# Altium footprint library SWITCHCRAFT_RASM722PTR13X.PcbLib: 1 footprints
Each footprint in its own frame and in the unit in brackets; x right, y up, seen from the top. Pads: shape width x height; smd on the part's side, far side on the other; paste and mask are expansions set on the pad; w line width, h text height; cw(c..) or ccw(c..) is an arc to the next point about the centre after c.
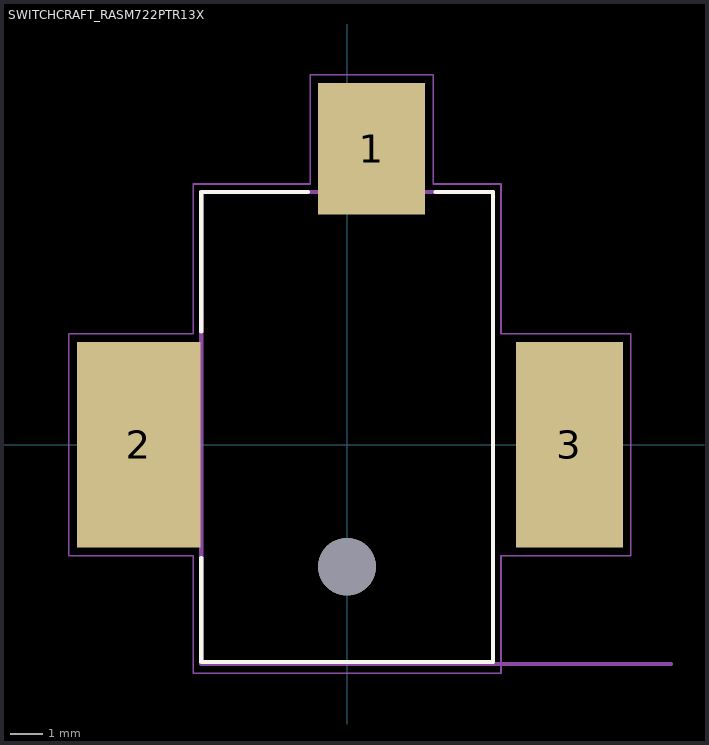
[diagram p0: the footprint, top view; thin cyan lines are the x and y axes]

## SWITCHCRAFT_RASM722PTR13X [mm]
height 11
pads (4):
  rect 3.3x4.06 smd: 1(0.76,9.14)
  rect 3.81x6.35 smd: 2(-6.43,0)
  rect 3.3x6.35 smd: 3(6.86,0)
  round 1.78 hole 1.78 unplated mask+0.254: ""(0,-3.76)
Top Overlay:
  lines w0.127: -4.5,-3.495 -4.5,-6.7 4.5,-6.7 4.5,7.8 2.73,7.8 ; -4.5,3.495 -4.5,7.8 -1.21,7.8
Assembly Top:
  lines w0.127: 10,-6.76 -4.5,-6.76 ; -4.5,-6.76 -4.5,-6.7 ; -4.5,-6.76 -4.5,-6.7 ; -4.5,-6.7 -4.5,7.8 4.5,7.8 4.5,-6.7 -4.5,-6.7
  text "PCB EDGE" at 4.9,-6.5 h0.81
Courtyard Top:
  lines w0.05: -8.585,-3.425 -4.75,-3.425 -4.75,-7.05 4.75,-7.05 4.75,-3.425 8.76,-3.425 8.76,3.425 4.75,3.425 4.75,8.05 2.66,8.05 2.66,11.42 -1.14,11.42 -1.14,8.05 -4.75,8.05 -4.75,3.425 -8.585,3.425 -8.585,-3.425
3D body "step_temp.STEP": height 11.02, standoff -1.42, extent -7.468,-6.604 7.772,10.414